# Altium schematic symbol library aiskylab-12PowerManage.SchLib: 1 symbol
Pins are listed as number, name and electrical type; pins without a type are passive.

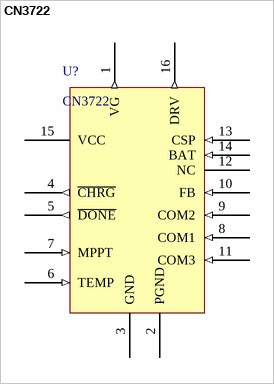
[diagram p0: symbol CN3722]

## CN3722
designator U?
充电管理集成电路; ComponentLink1Description: Datasheet_EN; ComponentLink1URL: http://www.consonance-elec.com/pdf/datasheet/DSE-CN3722.pdf; ComponentLink2Description: Datasheet_CN; ComponentLink2URL: http://www.consonance-elec.com/pdf/%E6%8A%80%E6%9C%AF%E8%AF%B4%E6%98%8E%E4%B9%A6/DSC-CN3722.pdf
footprint TSSOP-16-CN3722 (TSOP, 16-Leads, Body 5.00x4.40mm, Pitch 0.65mm, IPC Medium Density)
pins: 1 VG (out), 2 PGND (power), 3 GND (power), 4 ~{CHRG} (out), 5 ~{DONE} (out), 6 TEMP (in), 7 MPPT (in), 8 COM1 (in), 9 COM2 (in), 10 FB (in), 11 COM3 (in), 12 NC, 13 CSP (in), 14 BAT (in), 15 VCC (power), 16 DRV (out)